# Altium schematic symbol library SparkFun-Resistors.SCHLIB: 159 symbols (part 1 of 2)
Pins are listed as number, name and electrical type; pins without a type are passive.

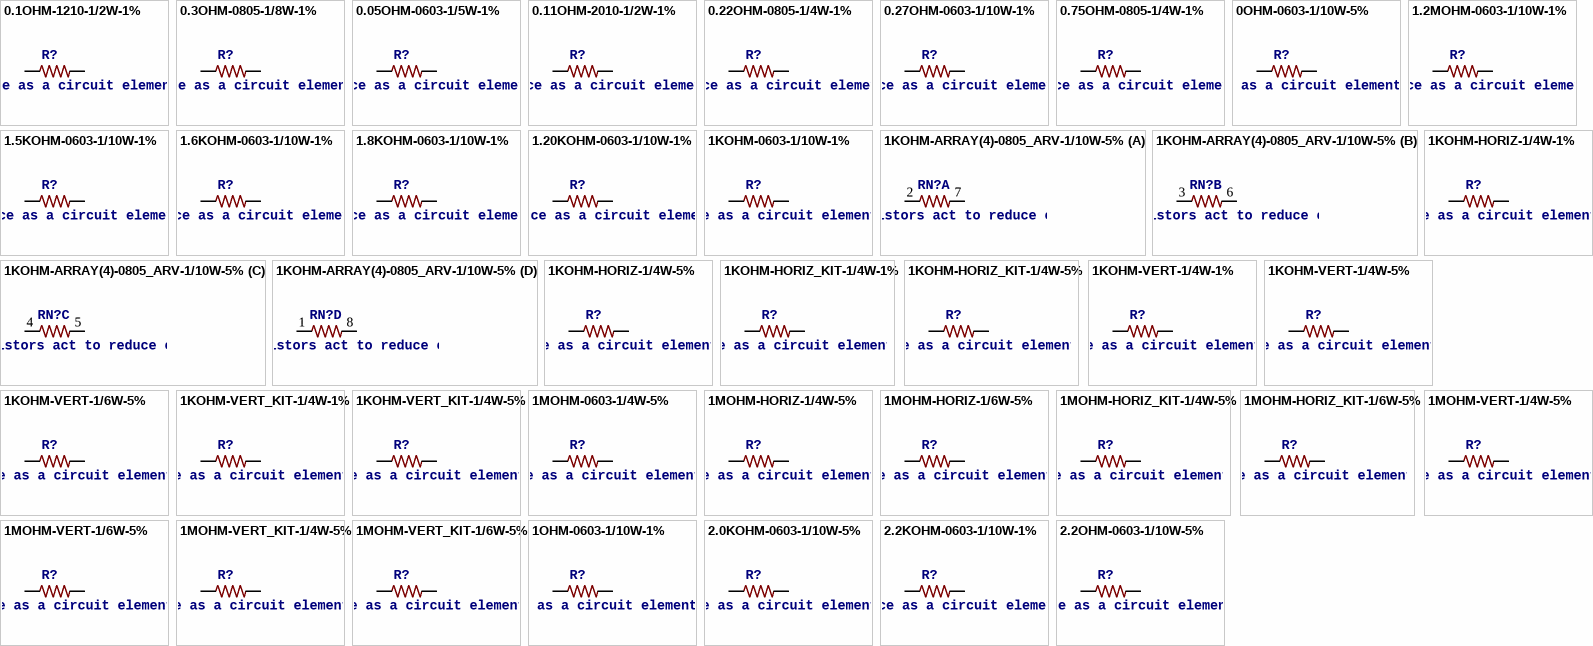
[diagram p0: symbols 0.1OHM-1210-1/2W-1% to 2.2OHM-0603-1/10W-5%]

## 0.1OHM-1210-1/2W-1%
designator R?, comment 0.1Ω resistor    A resistor is a passive two-terminal electrical component that implements electrical resistance as a circuit element. Resistors act to reduce current flow, and, at the same time, act to lower voltage levels within circuits. - Wikipedia
PROD_ID: RES-12374
footprint 1210
pins: 1, 2

## 0.3OHM-0805-1/8W-1%
designator R?, comment 0.3Ω resistor    A resistor is a passive two-terminal electrical component that implements electrical resistance as a circuit element. Resistors act to reduce current flow, and, at the same time, act to lower voltage levels within circuits. - Wikipedia
PROD_ID: RES-11622
footprint 0805
pins: 1, 2

## 0.05OHM-0603-1/5W-1%
designator R?, comment 0.05Ω resistor    A resistor is a passive two-terminal electrical component that implements electrical resistance as a circuit element. Resistors act to reduce current flow, and, at the same time, act to lower voltage levels within circuits. - Wikipedia
PROD_ID: RES-12535
footprint 0603
pins: 1, 2

## 0.11OHM-2010-1/2W-1%
designator R?, comment 0.11Ω resistor    A resistor is a passive two-terminal electrical component that implements electrical resistance as a circuit element. Resistors act to reduce current flow, and, at the same time, act to lower voltage levels within circuits. - Wikipedia
PROD_ID: RES-08354
footprint 2010
pins: 1, 2

## 0.22OHM-0805-1/4W-1%
designator R?, comment 0.22Ω resistor    A resistor is a passive two-terminal electrical component that implements electrical resistance as a circuit element. Resistors act to reduce current flow, and, at the same time, act to lower voltage levels within circuits. - Wikipedia
PROD_ID: RES-09883
footprint 0805
pins: 1, 2

## 0.27OHM-0603-1/10W-1%
designator R?, comment 0.27Ω resistor    A resistor is a passive two-terminal electrical component that implements electrical resistance as a circuit element. Resistors act to reduce current flow, and, at the same time, act to lower voltage levels within circuits. - Wikipedia
PROD_ID: RES-08787
footprint 0603
pins: 1, 2

## 0.75OHM-0805-1/4W-1%
designator R?, comment 0.75Ω resistor    A resistor is a passive two-terminal electrical component that implements electrical resistance as a circuit element. Resistors act to reduce current flow, and, at the same time, act to lower voltage levels within circuits. - Wikipedia
PROD_ID: RES-08474
footprint 0805
pins: 1, 2

## 0OHM-0603-1/10W-5%
designator R?, comment 0Ω resistor    A resistor is a passive two-terminal electrical component that implements electrical resistance as a circuit element. Resistors act to reduce current flow, and, at the same time, act to lower voltage levels within circuits. - Wikipedia
PROD_ID: RES-08609
footprint 0603
pins: 1, 2

## 1.2MOHM-0603-1/10W-1%
designator R?, comment 1.2MΩ resistor    A resistor is a passive two-terminal electrical component that implements electrical resistance as a circuit element. Resistors act to reduce current flow, and, at the same time, act to lower voltage levels within circuits. - Wikipedia
PROD_ID: RES-10055
footprint 0603
pins: 1, 2

## 1.5KOHM-0603-1/10W-1%
designator R?, comment 1.5kΩ resistor    A resistor is a passive two-terminal electrical component that implements electrical resistance as a circuit element. Resistors act to reduce current flow, and, at the same time, act to lower voltage levels within circuits. - Wikipedia
PROD_ID: RES-08306
footprint 0603
pins: 1, 2

## 1.6KOHM-0603-1/10W-1%
designator R?, comment 1.6kΩ resistor    A resistor is a passive two-terminal electrical component that implements electrical resistance as a circuit element. Resistors act to reduce current flow, and, at the same time, act to lower voltage levels within circuits. - Wikipedia
PROD_ID: RES-08361
footprint 0603
pins: 1, 2

## 1.8KOHM-0603-1/10W-1%
designator R?, comment 1.8kΩ resistor    A resistor is a passive two-terminal electrical component that implements electrical resistance as a circuit element. Resistors act to reduce current flow, and, at the same time, act to lower voltage levels within circuits. - Wikipedia
PROD_ID: RES-09119
footprint 0603
pins: 1, 2

## 1.20KOHM-0603-1/10W-1%
designator R?, comment 1.20kΩ resistor    A resistor is a passive two-terminal electrical component that implements electrical resistance as a circuit element. Resistors act to reduce current flow, and, at the same time, act to lower voltage levels within circuits. - Wikipedia
PROD_ID: RES-08413
footprint 0603
pins: 1, 2

## 1KOHM-0603-1/10W-1%
designator R?, comment 1kΩ resistor    A resistor is a passive two-terminal electrical component that implements electrical resistance as a circuit element. Resistors act to reduce current flow, and, at the same time, act to lower voltage levels within circuits. - Wikipedia
PROD_ID: RES-07856
footprint 0603
pins: 1, 2

## 1KOHM-ARRAY(4)-0805_ARV-1/10W-5%
designator RN?, comment 4 x 1kΩ resistor array    A resistor is a passive two-terminal electrical component that implements electrical resistance as a circuit element. Resistors act to reduce current flow, and, at the same time, act to lower voltage levels within circuits. - Wikipedia   An array is a collection of discrete resistors in a single package.
PROD_ID: RES-13020
footprint 0805-ARV
part A pins: 2 1, 7 2
part B pins: 3 1, 6 2
part C pins: 4 1, 5 2
part D pins: 1, 8 2

## 1KOHM-HORIZ-1/4W-1%
designator R?, comment 1kΩ resistor    A resistor is a passive two-terminal electrical component that implements electrical resistance as a circuit element. Resistors act to reduce current flow, and, at the same time, act to lower voltage levels within circuits. - Wikipedia
PROD_ID: RES-12182
footprint AXIAL-0.3
pins: P$1 1, P$2 2

## 1KOHM-HORIZ-1/4W-5%
designator R?, comment 1kΩ resistor    A resistor is a passive two-terminal electrical component that implements electrical resistance as a circuit element. Resistors act to reduce current flow, and, at the same time, act to lower voltage levels within circuits. - Wikipedia
PROD_ID: RES-08380
footprint AXIAL-0.3
pins: P$1 1, P$2 2

## 1KOHM-HORIZ_KIT-1/4W-1%
designator R?, comment 1kΩ resistor    A resistor is a passive two-terminal electrical component that implements electrical resistance as a circuit element. Resistors act to reduce current flow, and, at the same time, act to lower voltage levels within circuits. - Wikipedia
PROD_ID: RES-12182
footprint AXIAL-0.3-KIT
pins: P$1 1, P$2 2

## 1KOHM-HORIZ_KIT-1/4W-5%
designator R?, comment 1kΩ resistor    A resistor is a passive two-terminal electrical component that implements electrical resistance as a circuit element. Resistors act to reduce current flow, and, at the same time, act to lower voltage levels within circuits. - Wikipedia
PROD_ID: RES-08380
footprint AXIAL-0.3-KIT
pins: P$1 1, P$2 2

## 1KOHM-VERT-1/4W-1%
designator R?, comment 1kΩ resistor    A resistor is a passive two-terminal electrical component that implements electrical resistance as a circuit element. Resistors act to reduce current flow, and, at the same time, act to lower voltage levels within circuits. - Wikipedia
PROD_ID: RES-12182
footprint AXIAL-0.1
pins: P$1 1, P$2 2

## 1KOHM-VERT-1/4W-5%
designator R?, comment 1kΩ resistor    A resistor is a passive two-terminal electrical component that implements electrical resistance as a circuit element. Resistors act to reduce current flow, and, at the same time, act to lower voltage levels within circuits. - Wikipedia
PROD_ID: RES-08380
footprint AXIAL-0.1
pins: P$1 1, P$2 2

## 1KOHM-VERT-1/6W-5%
designator R?, comment 1kΩ resistor    A resistor is a passive two-terminal electrical component that implements electrical resistance as a circuit element. Resistors act to reduce current flow, and, at the same time, act to lower voltage levels within circuits. - Wikipedia
PROD_ID: RES-09769
footprint AXIAL-0.1
pins: P$1 1, P$2 2

## 1KOHM-VERT_KIT-1/4W-1%
designator R?, comment 1kΩ resistor    A resistor is a passive two-terminal electrical component that implements electrical resistance as a circuit element. Resistors act to reduce current flow, and, at the same time, act to lower voltage levels within circuits. - Wikipedia
PROD_ID: RES-12182
footprint AXIAL-0.1-KIT
pins: P$1 1, P$2 2

## 1KOHM-VERT_KIT-1/4W-5%
designator R?, comment 1kΩ resistor    A resistor is a passive two-terminal electrical component that implements electrical resistance as a circuit element. Resistors act to reduce current flow, and, at the same time, act to lower voltage levels within circuits. - Wikipedia
PROD_ID: RES-08380
footprint AXIAL-0.1-KIT
pins: P$1 1, P$2 2

## 1MOHM-0603-1/4W-5%
designator R?, comment 1MΩ resistor    A resistor is a passive two-terminal electrical component that implements electrical resistance as a circuit element. Resistors act to reduce current flow, and, at the same time, act to lower voltage levels within circuits. - Wikipedia
PROD_ID: RES-07868
footprint 0603
pins: 1, 2

## 1MOHM-HORIZ-1/4W-5%
designator R?, comment 1MΩ resistor    A resistor is a passive two-terminal electrical component that implements electrical resistance as a circuit element. Resistors act to reduce current flow, and, at the same time, act to lower voltage levels within circuits. - Wikipedia
PROD_ID: RES-09329
footprint AXIAL-0.3
pins: P$1 1, P$2 2

## 1MOHM-HORIZ-1/6W-5%
designator R?, comment 1MΩ resistor    A resistor is a passive two-terminal electrical component that implements electrical resistance as a circuit element. Resistors act to reduce current flow, and, at the same time, act to lower voltage levels within circuits. - Wikipedia
PROD_ID: RES-09559
footprint AXIAL-0.3
pins: P$1 1, P$2 2

## 1MOHM-HORIZ_KIT-1/4W-5%
designator R?, comment 1MΩ resistor    A resistor is a passive two-terminal electrical component that implements electrical resistance as a circuit element. Resistors act to reduce current flow, and, at the same time, act to lower voltage levels within circuits. - Wikipedia
PROD_ID: RES-09329
footprint AXIAL-0.3-KIT
pins: P$1 1, P$2 2

## 1MOHM-HORIZ_KIT-1/6W-5%
designator R?, comment 1MΩ resistor    A resistor is a passive two-terminal electrical component that implements electrical resistance as a circuit element. Resistors act to reduce current flow, and, at the same time, act to lower voltage levels within circuits. - Wikipedia
PROD_ID: RES-09559
footprint AXIAL-0.3-KIT
pins: P$1 1, P$2 2

## 1MOHM-VERT-1/4W-5%
designator R?, comment 1MΩ resistor    A resistor is a passive two-terminal electrical component that implements electrical resistance as a circuit element. Resistors act to reduce current flow, and, at the same time, act to lower voltage levels within circuits. - Wikipedia
PROD_ID: RES-09329
footprint AXIAL-0.1
pins: P$1 1, P$2 2

## 1MOHM-VERT-1/6W-5%
designator R?, comment 1MΩ resistor    A resistor is a passive two-terminal electrical component that implements electrical resistance as a circuit element. Resistors act to reduce current flow, and, at the same time, act to lower voltage levels within circuits. - Wikipedia
PROD_ID: RES-09559
footprint AXIAL-0.1
pins: P$1 1, P$2 2

## 1MOHM-VERT_KIT-1/4W-5%
designator R?, comment 1MΩ resistor    A resistor is a passive two-terminal electrical component that implements electrical resistance as a circuit element. Resistors act to reduce current flow, and, at the same time, act to lower voltage levels within circuits. - Wikipedia
PROD_ID: RES-09329
footprint AXIAL-0.1-KIT
pins: P$1 1, P$2 2

## 1MOHM-VERT_KIT-1/6W-5%
designator R?, comment 1MΩ resistor    A resistor is a passive two-terminal electrical component that implements electrical resistance as a circuit element. Resistors act to reduce current flow, and, at the same time, act to lower voltage levels within circuits. - Wikipedia
PROD_ID: RES-09559
footprint AXIAL-0.1-KIT
pins: P$1 1, P$2 2

## 1OHM-0603-1/10W-1%
designator R?, comment 1Ω resistor    A resistor is a passive two-terminal electrical component that implements electrical resistance as a circuit element. Resistors act to reduce current flow, and, at the same time, act to lower voltage levels within circuits. - Wikipedia
PROD_ID: RES-08269
footprint 0603
pins: 1, 2

## 2.0KOHM-0603-1/10W-5%
designator R?, comment 2kΩ resistor    A resistor is a passive two-terminal electrical component that implements electrical resistance as a circuit element. Resistors act to reduce current flow, and, at the same time, act to lower voltage levels within circuits. - Wikipedia
PROD_ID: RES-08296
footprint 0603
pins: 1, 2

## 2.2KOHM-0603-1/10W-1%
designator R?, comment 2.2kΩ resistor    A resistor is a passive two-terminal electrical component that implements electrical resistance as a circuit element. Resistors act to reduce current flow, and, at the same time, act to lower voltage levels within circuits. - Wikipedia
PROD_ID: RES-08272
footprint 0603
pins: 1, 2

## 2.2OHM-0603-1/10W-5%
designator R?, comment 2.2Ω resistor    A resistor is a passive two-terminal electrical component that implements electrical resistance as a circuit element. Resistors act to reduce current flow, and, at the same time, act to lower voltage levels within circuits. - Wikipedia
PROD_ID: RES-07823
footprint 0603
pins: 1, 2

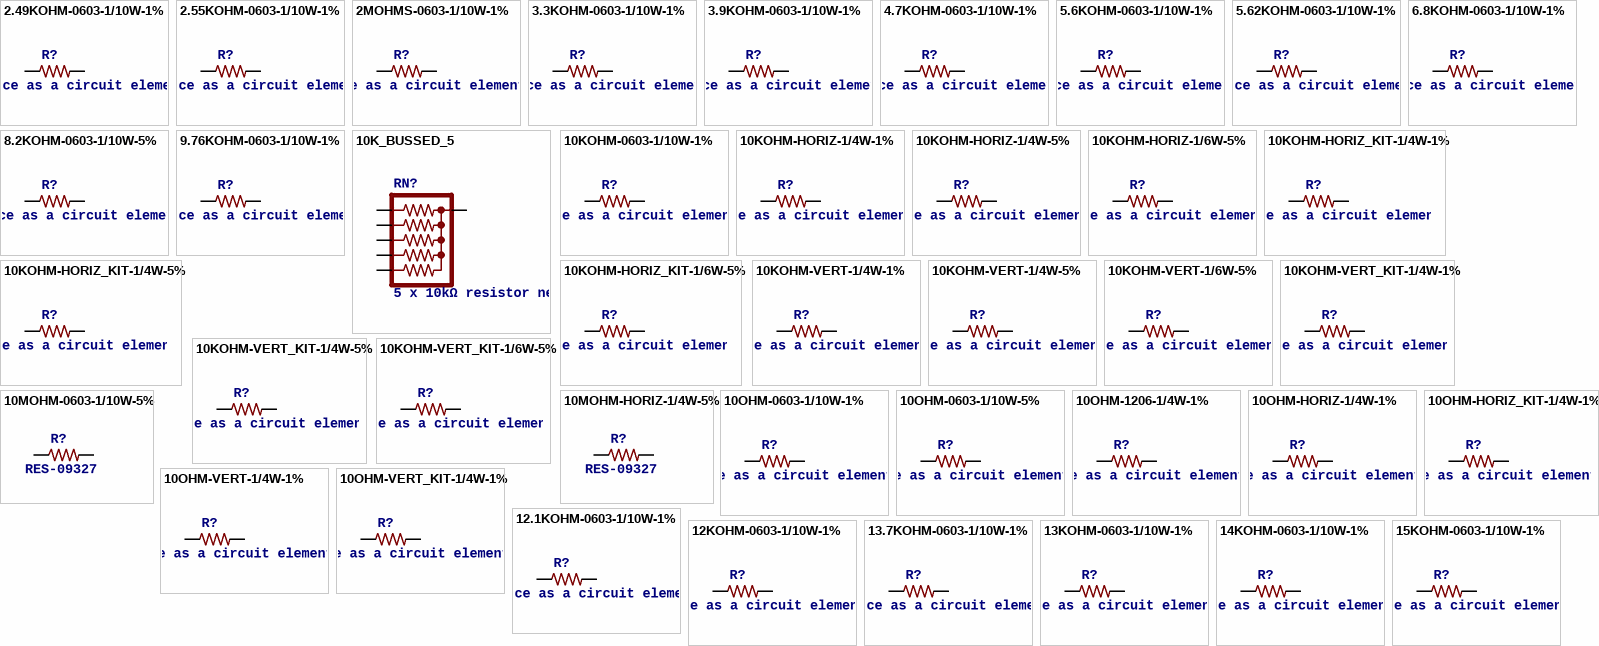
[diagram p1: symbols 2.49KOHM-0603-1/10W-1% to 15KOHM-0603-1/10W-1%]

## 2.49KOHM-0603-1/10W-1%
designator R?, comment 2.49kΩ resistor    A resistor is a passive two-terminal electrical component that implements electrical resistance as a circuit element. Resistors act to reduce current flow, and, at the same time, act to lower voltage levels within circuits. - Wikipedia
PROD_ID: RES-09568
footprint 0603
pins: 1, 2

## 2.55KOHM-0603-1/10W-1%
designator R?, comment 2.55kΩ resistor    A resistor is a passive two-terminal electrical component that implements electrical resistance as a circuit element. Resistors act to reduce current flow, and, at the same time, act to lower voltage levels within circuits. - Wikipedia
PROD_ID: RES-11227
footprint 0603
pins: 1, 2

## 2MOHMS-0603-1/10W-1%
designator R?, comment 2MΩ resistor    A resistor is a passive two-terminal electrical component that implements electrical resistance as a circuit element. Resistors act to reduce current flow, and, at the same time, act to lower voltage levels within circuits. - Wikipedia
PROD_ID: RES-10054
footprint 0603
pins: 1, 2

## 3.3KOHM-0603-1/10W-1%
designator R?, comment 3.3kΩ resistor    A resistor is a passive two-terminal electrical component that implements electrical resistance as a circuit element. Resistors act to reduce current flow, and, at the same time, act to lower voltage levels within circuits. - Wikipedia
PROD_ID: RES-07851
footprint 0603
pins: 1, 2

## 3.9KOHM-0603-1/10W-1%
designator R?, comment 3.9kΩ resistor    A resistor is a passive two-terminal electrical component that implements electrical resistance as a circuit element. Resistors act to reduce current flow, and, at the same time, act to lower voltage levels within circuits. - Wikipedia
PROD_ID: RES-08701
footprint 0603
pins: 1, 2

## 4.7KOHM-0603-1/10W-1%
designator R?, comment 4.7kΩ resistor    A resistor is a passive two-terminal electrical component that implements electrical resistance as a circuit element. Resistors act to reduce current flow, and, at the same time, act to lower voltage levels within circuits. - Wikipedia
PROD_ID: RES-07857
footprint 0603
pins: 1, 2

## 5.6KOHM-0603-1/10W-1%
designator R?, comment 5.6kΩ resistor    A resistor is a passive two-terminal electrical component that implements electrical resistance as a circuit element. Resistors act to reduce current flow, and, at the same time, act to lower voltage levels within circuits. - Wikipedia
PROD_ID: RES-12378
footprint 0603
pins: 1, 2

## 5.62KOHM-0603-1/10W-1%
designator R?, comment 5.62kΩ resistor    A resistor is a passive two-terminal electrical component that implements electrical resistance as a circuit element. Resistors act to reduce current flow, and, at the same time, act to lower voltage levels within circuits. - Wikipedia
PROD_ID: RES-09823
footprint 0603
pins: 1, 2

## 6.8KOHM-0603-1/10W-1%
designator R?, comment 6.8kΩ resistor    A resistor is a passive two-terminal electrical component that implements electrical resistance as a circuit element. Resistors act to reduce current flow, and, at the same time, act to lower voltage levels within circuits. - Wikipedia
PROD_ID: RES-08597
footprint 0603
pins: 1, 2

## 8.2KOHM-0603-1/10W-5%
designator R?, comment 8.2kΩ resistor    A resistor is a passive two-terminal electrical component that implements electrical resistance as a circuit element. Resistors act to reduce current flow, and, at the same time, act to lower voltage levels within circuits. - Wikipedia
PROD_ID: RES-10646
footprint 0603
pins: 1, 2

## 9.76KOHM-0603-1/10W-1%
designator R?, comment 9.76kΩ resistor    A resistor is a passive two-terminal electrical component that implements electrical resistance as a circuit element. Resistors act to reduce current flow, and, at the same time, act to lower voltage levels within circuits. - Wikipedia
PROD_ID: RES-12534
footprint 0603
pins: 1, 2

## 10K_BUSSED_5
designator RN?, comment 5 x 10kΩ resistor network    A resistor is a passive two-terminal electrical component that implements electrical resistance as a circuit element. Resistors act to reduce current flow, and, at the same time, act to lower voltage levels within circuits. - Wikipedia   This is a bussed or ladder network.
SF_SKU: COM-10856
footprint RPACK-SIP-PTH-5
pins: P$1 1, P$2 2, P$3 3, P$4 4, P$5 5, P$6 6

## 10KOHM-0603-1/10W-1%
designator R?, comment 10kΩ resistor    A resistor is a passive two-terminal electrical component that implements electrical resistance as a circuit element. Resistors act to reduce current flow, and, at the same time, act to lower voltage levels within circuits. - Wikipedia
PROD_ID: RES-00824
footprint 0603
pins: 1, 2

## 10KOHM-HORIZ-1/4W-1%
designator R?, comment 10kΩ resistor    A resistor is a passive two-terminal electrical component that implements electrical resistance as a circuit element. Resistors act to reduce current flow, and, at the same time, act to lower voltage levels within circuits. - Wikipedia
PROD_ID: RES-12183
footprint AXIAL-0.3
pins: P$1 1, P$2 2

## 10KOHM-HORIZ-1/4W-5%
designator R?, comment 10kΩ resistor    A resistor is a passive two-terminal electrical component that implements electrical resistance as a circuit element. Resistors act to reduce current flow, and, at the same time, act to lower voltage levels within circuits. - Wikipedia
PROD_ID: RES-09435
footprint AXIAL-0.3
pins: P$1 1, P$2 2

## 10KOHM-HORIZ-1/6W-5%
designator R?, comment 10kΩ resistor    A resistor is a passive two-terminal electrical component that implements electrical resistance as a circuit element. Resistors act to reduce current flow, and, at the same time, act to lower voltage levels within circuits. - Wikipedia
PROD_ID: RES-08375
footprint AXIAL-0.3
pins: P$1 1, P$2 2

## 10KOHM-HORIZ_KIT-1/4W-1%
designator R?, comment 10kΩ resistor    A resistor is a passive two-terminal electrical component that implements electrical resistance as a circuit element. Resistors act to reduce current flow, and, at the same time, act to lower voltage levels within circuits. - Wikipedia
PROD_ID: RES-12183
footprint AXIAL-0.3-KIT
pins: P$1 1, P$2 2

## 10KOHM-HORIZ_KIT-1/4W-5%
designator R?, comment 10kΩ resistor    A resistor is a passive two-terminal electrical component that implements electrical resistance as a circuit element. Resistors act to reduce current flow, and, at the same time, act to lower voltage levels within circuits. - Wikipedia
PROD_ID: RES-09435
footprint AXIAL-0.3-KIT
pins: P$1 1, P$2 2

## 10KOHM-HORIZ_KIT-1/6W-5%
designator R?, comment 10kΩ resistor    A resistor is a passive two-terminal electrical component that implements electrical resistance as a circuit element. Resistors act to reduce current flow, and, at the same time, act to lower voltage levels within circuits. - Wikipedia
PROD_ID: RES-08375
footprint AXIAL-0.3-KIT
pins: P$1 1, P$2 2

## 10KOHM-VERT-1/4W-1%
designator R?, comment 10kΩ resistor    A resistor is a passive two-terminal electrical component that implements electrical resistance as a circuit element. Resistors act to reduce current flow, and, at the same time, act to lower voltage levels within circuits. - Wikipedia
PROD_ID: RES-12183
footprint AXIAL-0.1
pins: P$1 1, P$2 2

## 10KOHM-VERT-1/4W-5%
designator R?, comment 10kΩ resistor    A resistor is a passive two-terminal electrical component that implements electrical resistance as a circuit element. Resistors act to reduce current flow, and, at the same time, act to lower voltage levels within circuits. - Wikipedia
PROD_ID: RES-09435
footprint AXIAL-0.1
pins: P$1 1, P$2 2

## 10KOHM-VERT-1/6W-5%
designator R?, comment 10kΩ resistor    A resistor is a passive two-terminal electrical component that implements electrical resistance as a circuit element. Resistors act to reduce current flow, and, at the same time, act to lower voltage levels within circuits. - Wikipedia
PROD_ID: RES-08375
footprint AXIAL-0.1
pins: P$1 1, P$2 2

## 10KOHM-VERT_KIT-1/4W-1%
designator R?, comment 10kΩ resistor    A resistor is a passive two-terminal electrical component that implements electrical resistance as a circuit element. Resistors act to reduce current flow, and, at the same time, act to lower voltage levels within circuits. - Wikipedia
PROD_ID: RES-12183
footprint AXIAL-0.1-KIT
pins: P$1 1, P$2 2

## 10KOHM-VERT_KIT-1/4W-5%
designator R?, comment 10kΩ resistor    A resistor is a passive two-terminal electrical component that implements electrical resistance as a circuit element. Resistors act to reduce current flow, and, at the same time, act to lower voltage levels within circuits. - Wikipedia
PROD_ID: RES-09435
footprint AXIAL-0.1-KIT
pins: P$1 1, P$2 2

## 10KOHM-VERT_KIT-1/6W-5%
designator R?, comment 10kΩ resistor    A resistor is a passive two-terminal electrical component that implements electrical resistance as a circuit element. Resistors act to reduce current flow, and, at the same time, act to lower voltage levels within circuits. - Wikipedia
PROD_ID: RES-08375
footprint AXIAL-0.1-KIT
pins: P$1 1, P$2 2

## 10MOHM-0603-1/10W-5%
designator R?, comment RES-09327
PROD_ID: RES-08283
footprint 0603
pins: 1, 2

## 10MOHM-HORIZ-1/4W-5%
designator R?, comment RES-09327
PROD_ID: RES-09327
footprint AXIAL-0.3
pins: P$1 1, P$2 2

## 10OHM-0603-1/10W-1%
designator R?, comment 10Ω resistor    A resistor is a passive two-terminal electrical component that implements electrical resistance as a circuit element. Resistors act to reduce current flow, and, at the same time, act to lower voltage levels within circuits. - Wikipedia
PROD_ID: RES-12581
footprint 0603
pins: 1, 2

## 10OHM-0603-1/10W-5%
designator R?, comment 10Ω resistor    A resistor is a passive two-terminal electrical component that implements electrical resistance as a circuit element. Resistors act to reduce current flow, and, at the same time, act to lower voltage levels within circuits. - Wikipedia
PROD_ID: RES-09834
footprint 0603
pins: 1, 2

## 10OHM-1206-1/4W-1%
designator R?, comment 10Ω resistor    A resistor is a passive two-terminal electrical component that implements electrical resistance as a circuit element. Resistors act to reduce current flow, and, at the same time, act to lower voltage levels within circuits. - Wikipedia
PROD_ID: RES-08705
footprint 1206
pins: 1, 2

## 10OHM-HORIZ-1/4W-1%
designator R?, comment 10Ω resistor    A resistor is a passive two-terminal electrical component that implements electrical resistance as a circuit element. Resistors act to reduce current flow, and, at the same time, act to lower voltage levels within circuits. - Wikipedia
PROD_ID: RES-12180
footprint AXIAL-0.3
pins: P$1 1, P$2 2

## 10OHM-HORIZ_KIT-1/4W-1%
designator R?, comment 10Ω resistor    A resistor is a passive two-terminal electrical component that implements electrical resistance as a circuit element. Resistors act to reduce current flow, and, at the same time, act to lower voltage levels within circuits. - Wikipedia
PROD_ID: RES-12180
footprint AXIAL-0.3-KIT
pins: P$1 1, P$2 2

## 10OHM-VERT-1/4W-1%
designator R?, comment 10Ω resistor    A resistor is a passive two-terminal electrical component that implements electrical resistance as a circuit element. Resistors act to reduce current flow, and, at the same time, act to lower voltage levels within circuits. - Wikipedia
PROD_ID: RES-12180
footprint AXIAL-0.1
pins: P$1 1, P$2 2

## 10OHM-VERT_KIT-1/4W-1%
designator R?, comment 10Ω resistor    A resistor is a passive two-terminal electrical component that implements electrical resistance as a circuit element. Resistors act to reduce current flow, and, at the same time, act to lower voltage levels within circuits. - Wikipedia
PROD_ID: RES-12180
footprint AXIAL-0.1-KIT
pins: P$1 1, P$2 2

## 12.1KOHM-0603-1/10W-1%
designator R?, comment 12.1kΩ resistor    A resistor is a passive two-terminal electrical component that implements electrical resistance as a circuit element. Resistors act to reduce current flow, and, at the same time, act to lower voltage levels within circuits. - Wikipedia
PROD_ID: RES-09378
footprint 0603
pins: 1, 2

## 12KOHM-0603-1/10W-1%
designator R?, comment 12kΩ resistor    A resistor is a passive two-terminal electrical component that implements electrical resistance as a circuit element. Resistors act to reduce current flow, and, at the same time, act to lower voltage levels within circuits. - Wikipedia
PROD_ID: RES-10327
footprint 0603
pins: 1, 2

## 13.7KOHM-0603-1/10W-1%
designator R?, comment 13.7kΩ resistor    A resistor is a passive two-terminal electrical component that implements electrical resistance as a circuit element. Resistors act to reduce current flow, and, at the same time, act to lower voltage levels within circuits. - Wikipedia
PROD_ID: RES-08603
footprint 0603
pins: 1, 2

## 13KOHM-0603-1/10W-1%
designator R?, comment 13kΩ resistor    A resistor is a passive two-terminal electrical component that implements electrical resistance as a circuit element. Resistors act to reduce current flow, and, at the same time, act to lower voltage levels within circuits. - Wikipedia
PROD_ID: RES-09571
footprint 0603
pins: 1, 2

## 14KOHM-0603-1/10W-1%
designator R?, comment 14kΩ resistor    A resistor is a passive two-terminal electrical component that implements electrical resistance as a circuit element. Resistors act to reduce current flow, and, at the same time, act to lower voltage levels within circuits. - Wikipedia
PROD_ID: RES-13340
footprint 0603
pins: 1, 2

## 15KOHM-0603-1/10W-1%
designator R?, comment 15kΩ resistor    A resistor is a passive two-terminal electrical component that implements electrical resistance as a circuit element. Resistors act to reduce current flow, and, at the same time, act to lower voltage levels within circuits. - Wikipedia
PROD_ID: RES-07854
footprint 0603
pins: 1, 2

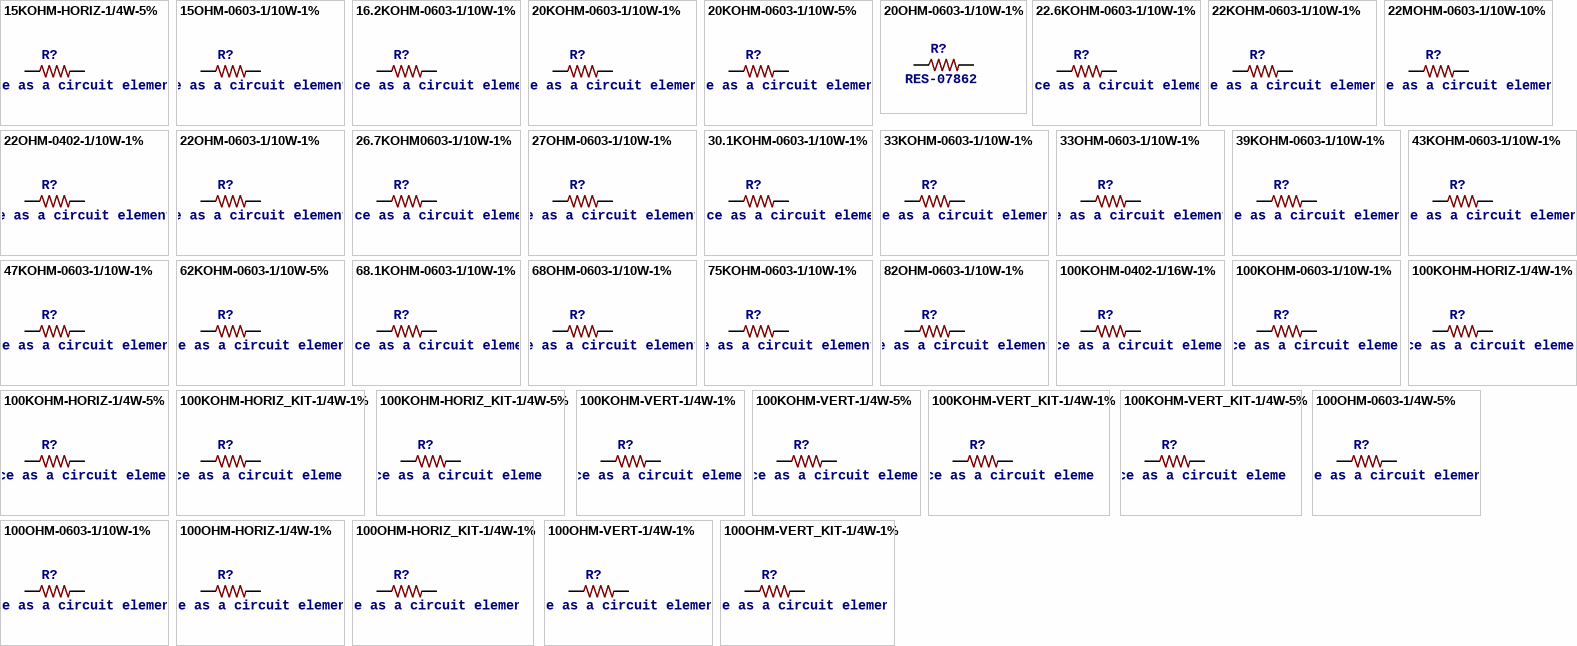
[diagram p2: symbols 15KOHM-HORIZ-1/4W-5% to 100OHM-VERT_KIT-1/4W-1%]

## 15KOHM-HORIZ-1/4W-5%
designator R?, comment 15kΩ resistor    A resistor is a passive two-terminal electrical component that implements electrical resistance as a circuit element. Resistors act to reduce current flow, and, at the same time, act to lower voltage levels within circuits. - Wikipedia
PROD_ID: RES-11360
footprint AXIAL-0.3
pins: P$1 1, P$2 2

## 15OHM-0603-1/10W-1%
designator R?, comment 15Ω resistor    A resistor is a passive two-terminal electrical component that implements electrical resistance as a circuit element. Resistors act to reduce current flow, and, at the same time, act to lower voltage levels within circuits. - Wikipedia
PROD_ID: RES-12570
footprint 0603
pins: 1, 2

## 16.2KOHM-0603-1/10W-1%
designator R?, comment 16.2kΩ resistor    A resistor is a passive two-terminal electrical component that implements electrical resistance as a circuit element. Resistors act to reduce current flow, and, at the same time, act to lower voltage levels within circuits. - Wikipedia
PROD_ID: RES-12187
footprint 0603
pins: 1, 2

## 20KOHM-0603-1/10W-1%
designator R?, comment 20kΩ resistor    A resistor is a passive two-terminal electrical component that implements electrical resistance as a circuit element. Resistors act to reduce current flow, and, at the same time, act to lower voltage levels within circuits. - Wikipedia
PROD_ID: RES-09383
footprint 0603
pins: 1, 2

## 20KOHM-0603-1/10W-5%
designator R?, comment 20kΩ resistor    A resistor is a passive two-terminal electrical component that implements electrical resistance as a circuit element. Resistors act to reduce current flow, and, at the same time, act to lower voltage levels within circuits. - Wikipedia
PROD_ID: RES-09231
footprint 0603
pins: 1, 2

## 20OHM-0603-1/10W-1%
designator R?, comment RES-07862
PROD_ID: RES-07862
footprint 0603
pins: 1, 2

## 22.6KOHM-0603-1/10W-1%
designator R?, comment 22.6kΩ resistor    A resistor is a passive two-terminal electrical component that implements electrical resistance as a circuit element. Resistors act to reduce current flow, and, at the same time, act to lower voltage levels within circuits. - Wikipedia
PROD_ID: RES-09384
footprint 0603
pins: 1, 2

## 22KOHM-0603-1/10W-1%
designator R?, comment 22kΩ resistor    A resistor is a passive two-terminal electrical component that implements electrical resistance as a circuit element. Resistors act to reduce current flow, and, at the same time, act to lower voltage levels within circuits. - Wikipedia
PROD_ID: RES-07853
footprint 0603
pins: 1, 2

## 22MOHM-0603-1/10W-10%
designator R?, comment 22MΩ resistor    A resistor is a passive two-terminal electrical component that implements electrical resistance as a circuit element. Resistors act to reduce current flow, and, at the same time, act to lower voltage levels within circuits. - Wikipedia
PROD_ID: RES-11132
footprint 0603
pins: 1, 2

## 22OHM-0402-1/10W-1%
designator R?, comment 22Ω resistor    A resistor is a passive two-terminal electrical component that implements electrical resistance as a circuit element. Resistors act to reduce current flow, and, at the same time, act to lower voltage levels within circuits. - Wikipedia
PROD_ID: RES-12427
footprint 0402
pins: 1, 2

## 22OHM-0603-1/10W-1%
designator R?, comment 22Ω resistor    A resistor is a passive two-terminal electrical component that implements electrical resistance as a circuit element. Resistors act to reduce current flow, and, at the same time, act to lower voltage levels within circuits. - Wikipedia
PROD_ID: RES-08698
footprint 0603
pins: 1, 2

## 26.7KOHM0603-1/10W-1%
designator R?, comment 26.7kΩ resistor    A resistor is a passive two-terminal electrical component that implements electrical resistance as a circuit element. Resistors act to reduce current flow, and, at the same time, act to lower voltage levels within circuits. - Wikipedia
PROD_ID: RES-12186
footprint 0603
pins: 1, 2

## 27OHM-0603-1/10W-1%
designator R?, comment 27Ω resistor    A resistor is a passive two-terminal electrical component that implements electrical resistance as a circuit element. Resistors act to reduce current flow, and, at the same time, act to lower voltage levels within circuits. - Wikipedia
PROD_ID: RES-09334
footprint 0603
pins: 1, 2

## 30.1KOHM-0603-1/10W-1%
designator R?, comment 30.1kΩ resistor    A resistor is a passive two-terminal electrical component that implements electrical resistance as a circuit element. Resistors act to reduce current flow, and, at the same time, act to lower voltage levels within circuits. - Wikipedia
PROD_ID: RES-08595
footprint 0603
pins: 1, 2

## 33KOHM-0603-1/10W-1%
designator R?, comment 33kΩ resistor    A resistor is a passive two-terminal electrical component that implements electrical resistance as a circuit element. Resistors act to reduce current flow, and, at the same time, act to lower voltage levels within circuits. - Wikipedia
PROD_ID: RES-08416
footprint 0603
pins: 1, 2

## 33OHM-0603-1/10W-1%
designator R?, comment 33Ω resistor    A resistor is a passive two-terminal electrical component that implements electrical resistance as a circuit element. Resistors act to reduce current flow, and, at the same time, act to lower voltage levels within circuits. - Wikipedia
PROD_ID: RES-08270
footprint 0603
pins: 1, 2

## 39KOHM-0603-1/10W-1%
designator R?, comment 39kΩ resistor    A resistor is a passive two-terminal electrical component that implements electrical resistance as a circuit element. Resistors act to reduce current flow, and, at the same time, act to lower voltage levels within circuits. - Wikipedia
PROD_ID: RES-12377
footprint 0603
pins: 1, 2

## 43KOHM-0603-1/10W-1%
designator R?, comment 43kΩ resistor    A resistor is a passive two-terminal electrical component that implements electrical resistance as a circuit element. Resistors act to reduce current flow, and, at the same time, act to lower voltage levels within circuits. - Wikipedia
PROD_ID: RES-07858
footprint 0603
pins: 1, 2

## 47KOHM-0603-1/10W-1%
designator R?, comment 47kΩ resistor    A resistor is a passive two-terminal electrical component that implements electrical resistance as a circuit element. Resistors act to reduce current flow, and, at the same time, act to lower voltage levels within circuits. - Wikipedia
PROD_ID: RES-07871
footprint 0603
pins: 1, 2

## 62KOHM-0603-1/10W-5%
designator R?, comment 62kΩ resistor    A resistor is a passive two-terminal electrical component that implements electrical resistance as a circuit element. Resistors act to reduce current flow, and, at the same time, act to lower voltage levels within circuits. - Wikipedia
footprint 0603
pins: 1, 2

## 68.1KOHM-0603-1/10W-1%
designator R?, comment 68.1kΩ resistor    A resistor is a passive two-terminal electrical component that implements electrical resistance as a circuit element. Resistors act to reduce current flow, and, at the same time, act to lower voltage levels within circuits. - Wikipedia
PROD_ID: RES-09380
footprint 0603
pins: 1, 2

## 68OHM-0603-1/10W-1%
designator R?, comment 68Ω resistor    A resistor is a passive two-terminal electrical component that implements electrical resistance as a circuit element. Resistors act to reduce current flow, and, at the same time, act to lower voltage levels within circuits. - Wikipedia
footprint 0603
pins: 1, 2

## 75KOHM-0603-1/10W-1%
designator R?, comment 75Ω resistor    A resistor is a passive two-terminal electrical component that implements electrical resistance as a circuit element. Resistors act to reduce current flow, and, at the same time, act to lower voltage levels within circuits. - Wikipedia
PROD_ID: RES-09737
footprint 0603
pins: 1, 2

## 82OHM-0603-1/10W-1%
designator R?, comment 82Ω resistor    A resistor is a passive two-terminal electrical component that implements electrical resistance as a circuit element. Resistors act to reduce current flow, and, at the same time, act to lower voltage levels within circuits. - Wikipedia
PROD_ID: RES-12311
footprint 0603
pins: 1, 2

## 100KOHM-0402-1/16W-1%
designator R?, comment 100kΩ resistor    A resistor is a passive two-terminal electrical component that implements electrical resistance as a circuit element. Resistors act to reduce current flow, and, at the same time, act to lower voltage levels within circuits. - Wikipedia
PROD_ID: RES-13495
footprint 0402
pins: 1, 2

## 100KOHM-0603-1/10W-1%
designator R?, comment 100kΩ resistor    A resistor is a passive two-terminal electrical component that implements electrical resistance as a circuit element. Resistors act to reduce current flow, and, at the same time, act to lower voltage levels within circuits. - Wikipedia
PROD_ID: RES-07828
footprint 0603
pins: 1, 2

## 100KOHM-HORIZ-1/4W-1%
designator R?, comment 100kΩ resistor    A resistor is a passive two-terminal electrical component that implements electrical resistance as a circuit element. Resistors act to reduce current flow, and, at the same time, act to lower voltage levels within circuits. - Wikipedia
PROD_ID: RES-12184
footprint AXIAL-0.3
pins: P$1 1, P$2 2

## 100KOHM-HORIZ-1/4W-5%
designator R?, comment 100kΩ resistor    A resistor is a passive two-terminal electrical component that implements electrical resistance as a circuit element. Resistors act to reduce current flow, and, at the same time, act to lower voltage levels within circuits. - Wikipedia
PROD_ID: RES-10686
footprint AXIAL-0.3
pins: P$1 1, P$2 2

## 100KOHM-HORIZ_KIT-1/4W-1%
designator R?, comment 100kΩ resistor    A resistor is a passive two-terminal electrical component that implements electrical resistance as a circuit element. Resistors act to reduce current flow, and, at the same time, act to lower voltage levels within circuits. - Wikipedia
PROD_ID: RES-12184
footprint AXIAL-0.3-KIT
pins: P$1 1, P$2 2

## 100KOHM-HORIZ_KIT-1/4W-5%
designator R?, comment 100kΩ resistor    A resistor is a passive two-terminal electrical component that implements electrical resistance as a circuit element. Resistors act to reduce current flow, and, at the same time, act to lower voltage levels within circuits. - Wikipedia
PROD_ID: RES-10686
footprint AXIAL-0.3-KIT
pins: P$1 1, P$2 2

## 100KOHM-VERT-1/4W-1%
designator R?, comment 100kΩ resistor    A resistor is a passive two-terminal electrical component that implements electrical resistance as a circuit element. Resistors act to reduce current flow, and, at the same time, act to lower voltage levels within circuits. - Wikipedia
PROD_ID: RES-12184
footprint AXIAL-0.1
pins: P$1 1, P$2 2

## 100KOHM-VERT-1/4W-5%
designator R?, comment 100kΩ resistor    A resistor is a passive two-terminal electrical component that implements electrical resistance as a circuit element. Resistors act to reduce current flow, and, at the same time, act to lower voltage levels within circuits. - Wikipedia
PROD_ID: RES-10686
footprint AXIAL-0.1
pins: P$1 1, P$2 2

## 100KOHM-VERT_KIT-1/4W-1%
designator R?, comment 100kΩ resistor    A resistor is a passive two-terminal electrical component that implements electrical resistance as a circuit element. Resistors act to reduce current flow, and, at the same time, act to lower voltage levels within circuits. - Wikipedia
PROD_ID: RES-12184
footprint AXIAL-0.1-KIT
pins: P$1 1, P$2 2

## 100KOHM-VERT_KIT-1/4W-5%
designator R?, comment 100kΩ resistor    A resistor is a passive two-terminal electrical component that implements electrical resistance as a circuit element. Resistors act to reduce current flow, and, at the same time, act to lower voltage levels within circuits. - Wikipedia
PROD_ID: RES-10686
footprint AXIAL-0.1-KIT
pins: P$1 1, P$2 2

## 100OHM-0603-1/4W-5%
designator R?, comment 100Ω resistor    A resistor is a passive two-terminal electrical component that implements electrical resistance as a circuit element. Resistors act to reduce current flow, and, at the same time, act to lower voltage levels within circuits. - Wikipedia
PROD_ID: RES-12438
footprint 0603
pins: 1, 2

## 100OHM-0603-1/10W-1%
designator R?, comment 100Ω resistor    A resistor is a passive two-terminal electrical component that implements electrical resistance as a circuit element. Resistors act to reduce current flow, and, at the same time, act to lower voltage levels within circuits. - Wikipedia
PROD_ID: RES-07863
footprint 0603
pins: 1, 2

## 100OHM-HORIZ-1/4W-1%
designator R?, comment 100Ω resistor    A resistor is a passive two-terminal electrical component that implements electrical resistance as a circuit element. Resistors act to reduce current flow, and, at the same time, act to lower voltage levels within circuits. - Wikipedia
PROD_ID: RES-12181
footprint AXIAL-0.3
pins: P$1 1, P$2 2

## 100OHM-HORIZ_KIT-1/4W-1%
designator R?, comment 100Ω resistor    A resistor is a passive two-terminal electrical component that implements electrical resistance as a circuit element. Resistors act to reduce current flow, and, at the same time, act to lower voltage levels within circuits. - Wikipedia
PROD_ID: RES-12181
footprint AXIAL-0.3EZ
pins: P$1 1, P$2 2

## 100OHM-VERT-1/4W-1%
designator R?, comment 100Ω resistor    A resistor is a passive two-terminal electrical component that implements electrical resistance as a circuit element. Resistors act to reduce current flow, and, at the same time, act to lower voltage levels within circuits. - Wikipedia
PROD_ID: RES-12181
footprint AXIAL-0.1
pins: P$1 1, P$2 2

## 100OHM-VERT_KIT-1/4W-1%
designator R?, comment 100Ω resistor    A resistor is a passive two-terminal electrical component that implements electrical resistance as a circuit element. Resistors act to reduce current flow, and, at the same time, act to lower voltage levels within circuits. - Wikipedia
PROD_ID: RES-12181
footprint AXIAL-0.1-KIT
pins: P$1 1, P$2 2

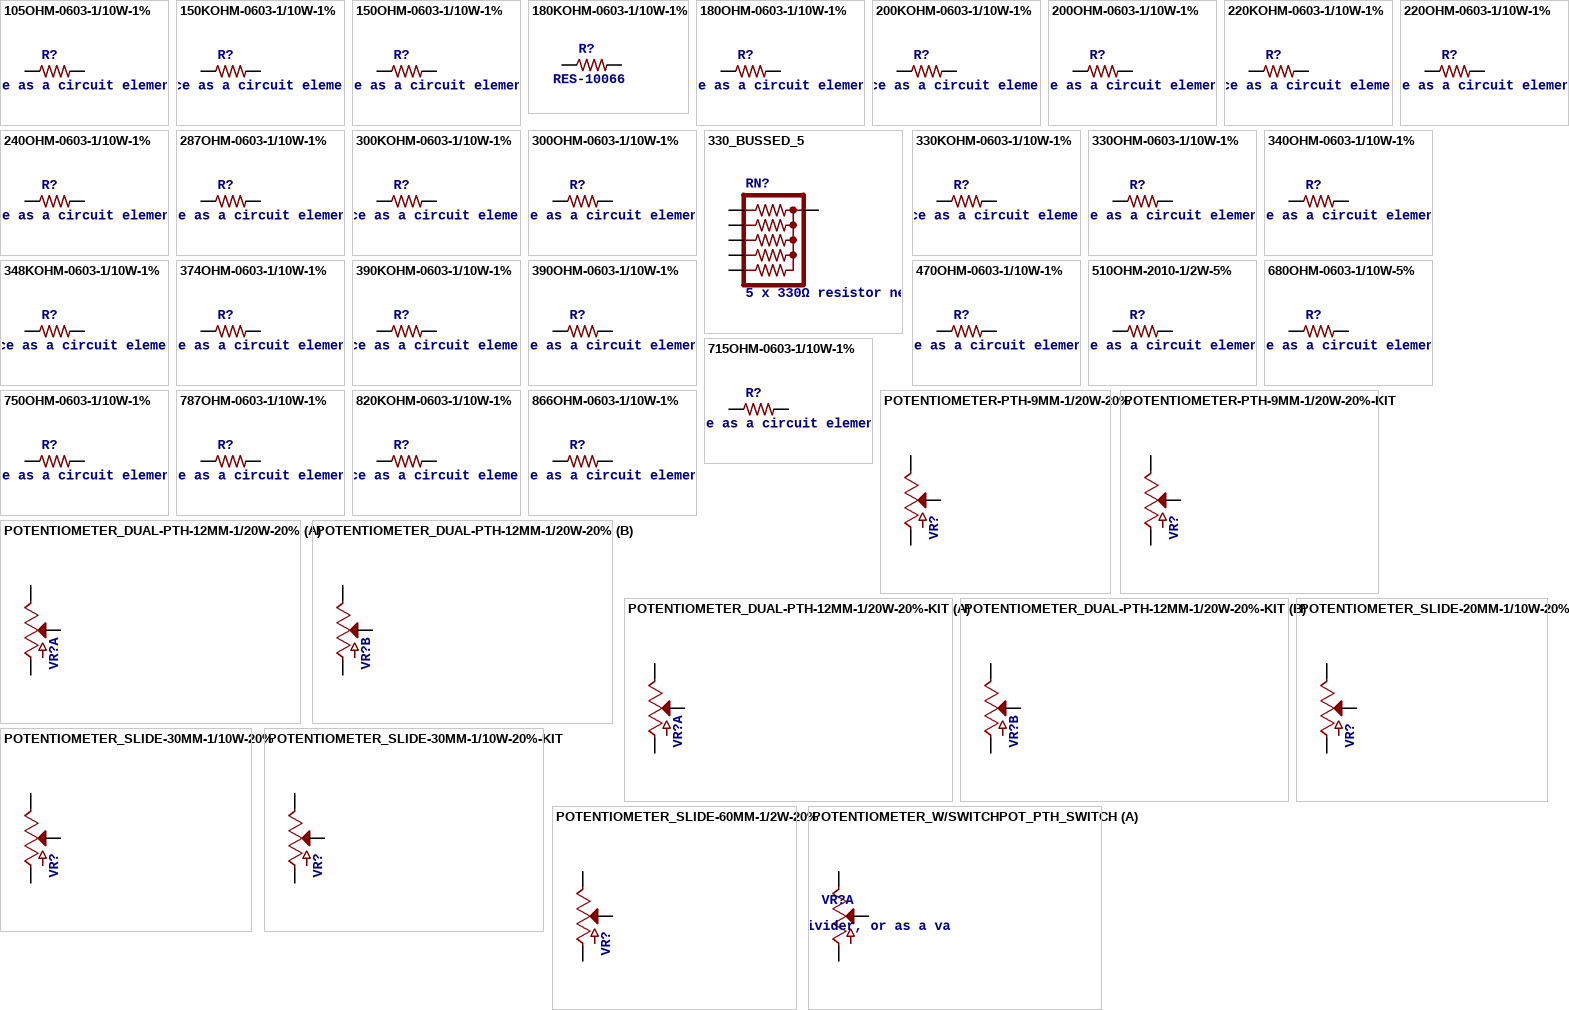
[diagram p3: symbols 105OHM-0603-1/10W-1% to POTENTIOMETER_W/SWITCHPOT_PTH_SWITCH]

## 105OHM-0603-1/10W-1%
designator R?, comment 105Ω resistor    A resistor is a passive two-terminal electrical component that implements electrical resistance as a circuit element. Resistors act to reduce current flow, and, at the same time, act to lower voltage levels within circuits. - Wikipedia
PROD_ID: RES-10751
footprint 0603
pins: 1, 2

## 150KOHM-0603-1/10W-1%
designator R?, comment 150kΩ resistor    A resistor is a passive two-terminal electrical component that implements electrical resistance as a circuit element. Resistors act to reduce current flow, and, at the same time, act to lower voltage levels within circuits. - Wikipedia
PROD_ID: RES-09117
footprint 0603
pins: 1, 2

## 150OHM-0603-1/10W-1%
designator R?, comment 150Ω resistor    A resistor is a passive two-terminal electrical component that implements electrical resistance as a circuit element. Resistors act to reduce current flow, and, at the same time, act to lower voltage levels within circuits. - Wikipedia
PROD_ID: RES-11028
footprint 0603
pins: 1, 2

## 180KOHM-0603-1/10W-1%
designator R?, comment RES-10066
PROD_ID: RES-10066
footprint 0603
pins: 1, 2

## 180OHM-0603-1/10W-1%
designator R?, comment 180Ω resistor    A resistor is a passive two-terminal electrical component that implements electrical resistance as a circuit element. Resistors act to reduce current flow, and, at the same time, act to lower voltage levels within circuits. - Wikipedia
PROD_ID: RES-08788
footprint 0603
pins: 1, 2

## 200KOHM-0603-1/10W-1%
designator R?, comment 200kΩ resistor    A resistor is a passive two-terminal electrical component that implements electrical resistance as a circuit element. Resistors act to reduce current flow, and, at the same time, act to lower voltage levels within circuits. - Wikipedia
PROD_ID: RES-09385
footprint 0603
pins: 1, 2

## 200OHM-0603-1/10W-1%
designator R?, comment 200Ω resistor    A resistor is a passive two-terminal electrical component that implements electrical resistance as a circuit element. Resistors act to reduce current flow, and, at the same time, act to lower voltage levels within circuits. - Wikipedia
PROD_ID: RES-08220
footprint 0603
pins: 1, 2

## 220KOHM-0603-1/10W-1%
designator R?, comment 220kΩ resistor    A resistor is a passive two-terminal electrical component that implements electrical resistance as a circuit element. Resistors act to reduce current flow, and, at the same time, act to lower voltage levels within circuits. - Wikipedia
PROD_ID: RES-08969
footprint 0603
pins: 1, 2

## 220OHM-0603-1/10W-1%
designator R?, comment 220Ω resistor    A resistor is a passive two-terminal electrical component that implements electrical resistance as a circuit element. Resistors act to reduce current flow, and, at the same time, act to lower voltage levels within circuits. - Wikipedia
PROD_ID: RES-07861
footprint 0603
pins: 1, 2

## 240OHM-0603-1/10W-1%
designator R?, comment 240Ω resistor    A resistor is a passive two-terminal electrical component that implements electrical resistance as a circuit element. Resistors act to reduce current flow, and, at the same time, act to lower voltage levels within circuits. - Wikipedia
PROD_ID: RES-07849
footprint 0603
pins: 1, 2

## 287OHM-0603-1/10W-1%
designator R?, comment 287Ω resistor    A resistor is a passive two-terminal electrical component that implements electrical resistance as a circuit element. Resistors act to reduce current flow, and, at the same time, act to lower voltage levels within circuits. - Wikipedia
PROD_ID: RES-10752
footprint 0603
pins: 1, 2

## 300KOHM-0603-1/10W-1%
designator R?, comment 300kΩ resistor    A resistor is a passive two-terminal electrical component that implements electrical resistance as a circuit element. Resistors act to reduce current flow, and, at the same time, act to lower voltage levels within circuits. - Wikipedia
PROD_ID: RES-10809
footprint 0603
pins: 1, 2

## 300OHM-0603-1/10W-1%
designator R?, comment 300Ω resistor    A resistor is a passive two-terminal electrical component that implements electrical resistance as a circuit element. Resistors act to reduce current flow, and, at the same time, act to lower voltage levels within circuits. - Wikipedia
PROD_ID: RES_10328
footprint 0603
pins: 1, 2

## 330_BUSSED_5
designator RN?, comment 5 x 330Ω resistor network    A resistor is a passive two-terminal electrical component that implements electrical resistance as a circuit element. Resistors act to reduce current flow, and, at the same time, act to lower voltage levels within circuits. - Wikipedia   This is a bussed or ladder network.
SF_SKU: COM-10856
footprint RPACK-SIP-PTH-5
pins: P$1 1, P$2 2, P$3 3, P$4 4, P$5 5, P$6 6

## 330KOHM-0603-1/10W-1%
designator R?, comment 330kΩ resistor    A resistor is a passive two-terminal electrical component that implements electrical resistance as a circuit element. Resistors act to reduce current flow, and, at the same time, act to lower voltage levels within circuits. - Wikipedia
PROD_ID: RES-08968
footprint 0603
pins: 1, 2

## 330OHM-0603-1/10W-1%
designator R?, comment 330Ω resistor    A resistor is a passive two-terminal electrical component that implements electrical resistance as a circuit element. Resistors act to reduce current flow, and, at the same time, act to lower voltage levels within circuits. - Wikipedia
PROD_ID: RES-00818
footprint 0603
pins: 1, 2

## 340OHM-0603-1/10W-1%
designator R?, comment 340Ω resistor    A resistor is a passive two-terminal electrical component that implements electrical resistance as a circuit element. Resistors act to reduce current flow, and, at the same time, act to lower voltage levels within circuits. - Wikipedia
PROD_ID: RES-12616
footprint 0603
pins: 1, 2

## 348KOHM-0603-1/10W-1%
designator R?, comment 348kΩ resistor    A resistor is a passive two-terminal electrical component that implements electrical resistance as a circuit element. Resistors act to reduce current flow, and, at the same time, act to lower voltage levels within circuits. - Wikipedia
PROD_ID: RES-12533
footprint 0603
pins: 1, 2

## 374OHM-0603-1/10W-1%
designator R?, comment 374Ω resistor    A resistor is a passive two-terminal electrical component that implements electrical resistance as a circuit element. Resistors act to reduce current flow, and, at the same time, act to lower voltage levels within circuits. - Wikipedia
PROD_ID: RES-09992
footprint 0603
pins: 1, 2

## 390KOHM-0603-1/10W-1%
designator R?, comment 390kΩ resistor    A resistor is a passive two-terminal electrical component that implements electrical resistance as a circuit element. Resistors act to reduce current flow, and, at the same time, act to lower voltage levels within circuits. - Wikipedia
PROD_ID: RES-12024
footprint 0603
pins: 1, 2

## 390OHM-0603-1/10W-1%
designator R?, comment 390Ω resistor    A resistor is a passive two-terminal electrical component that implements electrical resistance as a circuit element. Resistors act to reduce current flow, and, at the same time, act to lower voltage levels within circuits. - Wikipedia
PROD_ID: RES-07864
footprint 0603
pins: 1, 2

## 470OHM-0603-1/10W-1%
designator R?, comment 470Ω resistor    A resistor is a passive two-terminal electrical component that implements electrical resistance as a circuit element. Resistors act to reduce current flow, and, at the same time, act to lower voltage levels within circuits. - Wikipedia
PROD_ID: RES-07869
footprint 0603
pins: 1, 2

## 510OHM-2010-1/2W-5%
designator R?, comment 510Ω resistor    A resistor is a passive two-terminal electrical component that implements electrical resistance as a circuit element. Resistors act to reduce current flow, and, at the same time, act to lower voltage levels within circuits. - Wikipedia
PROD_ID: RES-08717
footprint 2010
pins: 1, 2

## 680OHM-0603-1/10W-5%
designator R?, comment 680Ω resistor    A resistor is a passive two-terminal electrical component that implements electrical resistance as a circuit element. Resistors act to reduce current flow, and, at the same time, act to lower voltage levels within circuits. - Wikipedia
PROD_ID: RES-09333
footprint 0603
pins: 1, 2

## 715OHM-0603-1/10W-1%
designator R?, comment 715Ω resistor    A resistor is a passive two-terminal electrical component that implements electrical resistance as a circuit element. Resistors act to reduce current flow, and, at the same time, act to lower voltage levels within circuits. - Wikipedia
PROD_ID: RES-07850
footprint 0603
pins: 1, 2